# Altium footprint library KBU800.PcbLib: 1 footprints
Each footprint in its own frame and in the unit in brackets; x right, y up, seen from the top. Pads: shape width x height; smd on the part's side, far side on the other; paste and mask are expansions set on the pad; w line width, h text height; cw(c..) or ccw(c..) is an arc to the next point about the centre after c.
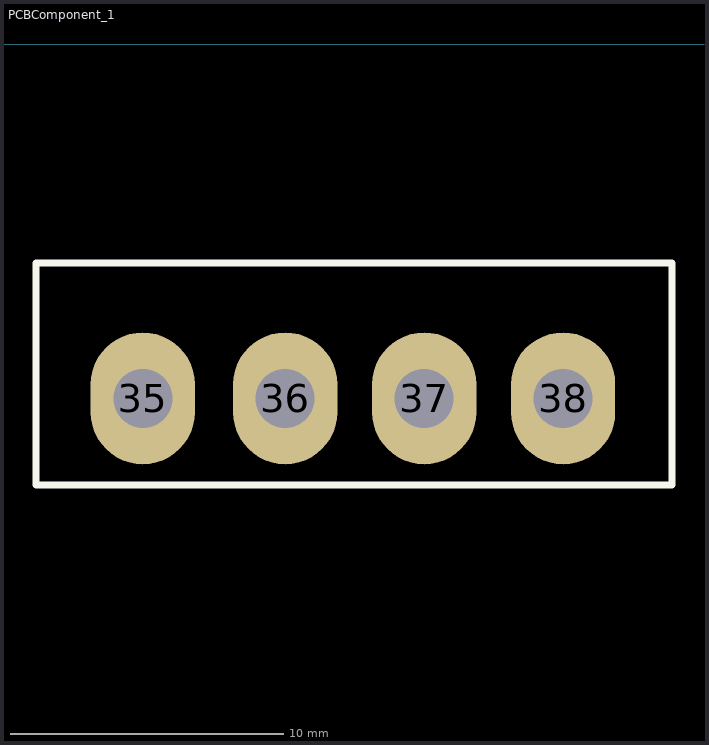
[diagram p0: the footprint, top view; thin cyan lines are the x and y axes]

## PCBComponent_1 [mil]
pads (4):
  oval 150x190 hole 85: 35(700,-510) 36(905,-510) 37(1105,-510) 38(1305,-510)
Top Overlay:
  lines w10: 546,-635 1462,-635 1462,-315 546,-315 546,-635
3D body "KBU800 – KBU810 8.0A BRIDGE RECTIFIER.STEP": height 1067.08, standoff -1220.44, extent 546.61,-584.69 1460,-315